# EAGLE library part WIZ850IO (library WIZ850io)
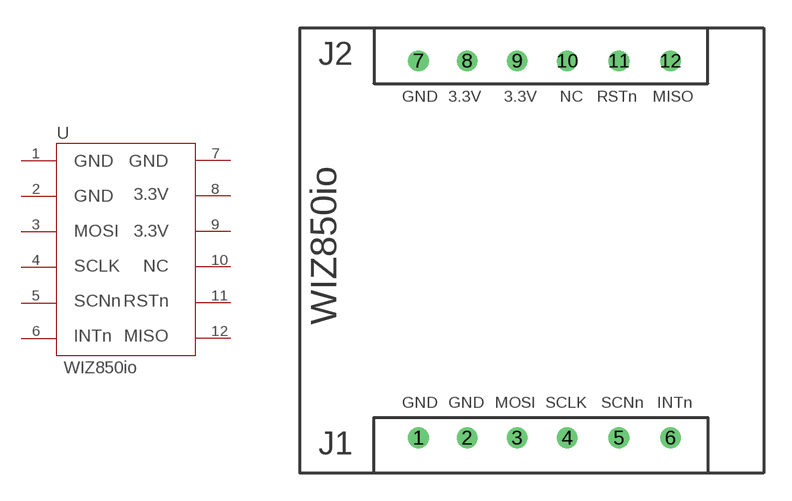
[diagram p0: symbol with the pads of WIZ850IO; footprint WIZ850IO]

Designator prefix -

## WIZ850IO  [WIZ850IO]
1  1
2  2
3  3
4  4
5  5
6  6
7  7
8  8
9  9
10  10
11  11
12  12

## Footprint WIZ850IO (pad centres in mm)
WIZ850io Compact Ethernet Module
drill 0.6: 1 6.4,1.9; 2 9.02,1.9; 3 11.72,1.9; 4 14.42,1.9; 5 17.2,1.9; 6 19.98,1.9; 7 6.4,22.22; 8 9.02,22.22; 9 11.72,22.22; 10 14.42,22.22; 11 17.2,22.22; 12 19.98,22.22